# Altium footprint library Infineon_IFX9201SGAUMA1_0.PcbLib: 1 footprints
Each footprint in its own frame and in the unit in brackets; x right, y up, seen from the top. Pads: shape width x height; smd on the part's side, far side on the other; paste and mask are expansions set on the pad; w line width, h text height; cw(c..) or ccw(c..) is an arc to the next point about the centre after c.
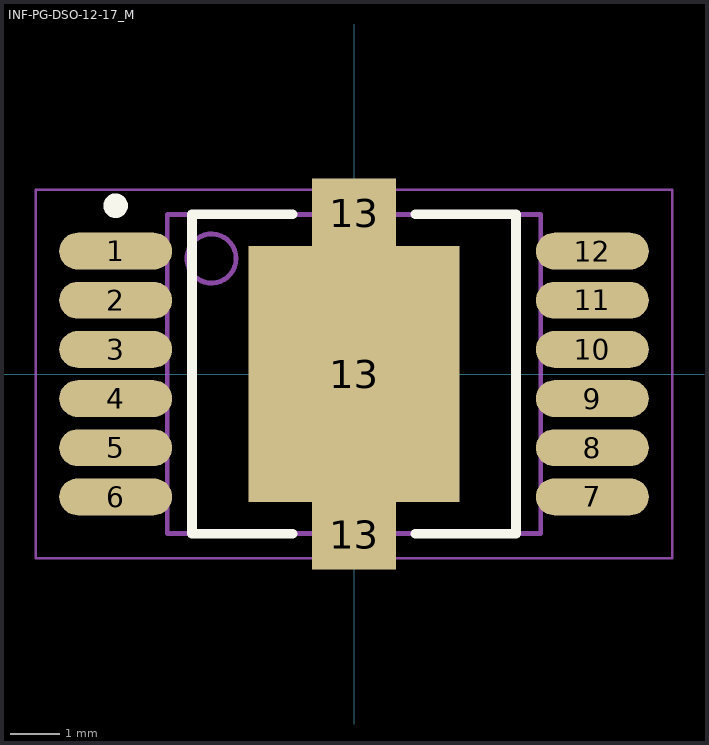
[diagram p0: the footprint, top view; thin cyan lines are the x and y axes]

## INF-PG-DSO-12-17_M [mm] "SOP, 12-Leads, Body 7.6x6.5mm, Pitch 1mm, Thermal Pad 7.9x4.3mm, IPC Low Density"
height 2.6
pads (15):
  oval 2.3x0.75 smd: 1(-4.85,2.5) 2(-4.85,1.5) 3(-4.85,0.5) 4(-4.85,-0.5) 5(-4.85,-1.5) 6(-4.85,-2.5) 7(4.85,-2.5) 8(4.85,-1.5) 9(4.85,-0.5) 10(4.85,0.5) 11(4.85,1.5) 12(4.85,2.5)
  rect 1.7x1.4 smd: 13(0,-3.275) 13(0,3.275)
  rect 4.3x5.2 smd: 13(0,0)
Top Overlay:
  circle w0.25: c-4.85,3.425 r0.125
  lines w0.2: -1.25,-3.25 -3.3,-3.25 -3.3,3.25 -1.25,3.25 ; 1.25,-3.25 3.3,-3.25 3.3,3.25 1.25,3.25
Mechanical 13:
  circle w0.1: c-2.9,2.35 r0.5
  lines w0.1: -3.8,-3.25 -3.8,3.25 3.8,3.25 3.8,-3.25 -3.8,-3.25
Mechanical 15:
  lines w0.05: -6.475,-3.75 -6.475,3.75 6.475,3.75 6.475,-3.75 -6.475,-3.75
  lines w0.1: -0.5,0 0.5,0 ; 0,-0.5 0,0.5
3D body: height 2.6, standoff 0, extent -3.8,-3.25 3.8,3.25